# Altium footprint library Connector_FFC-FPC.PcbLib: 184 footprints (part 10 of 12)
Each footprint in its own frame and in the unit in brackets; x right, y up, seen from the top. Pads: shape width x height; smd on the part's side, far side on the other; paste and mask are expansions set on the pad; w line width, h text height; cw(c..) or ccw(c..) is an arc to the next point about the centre after c.
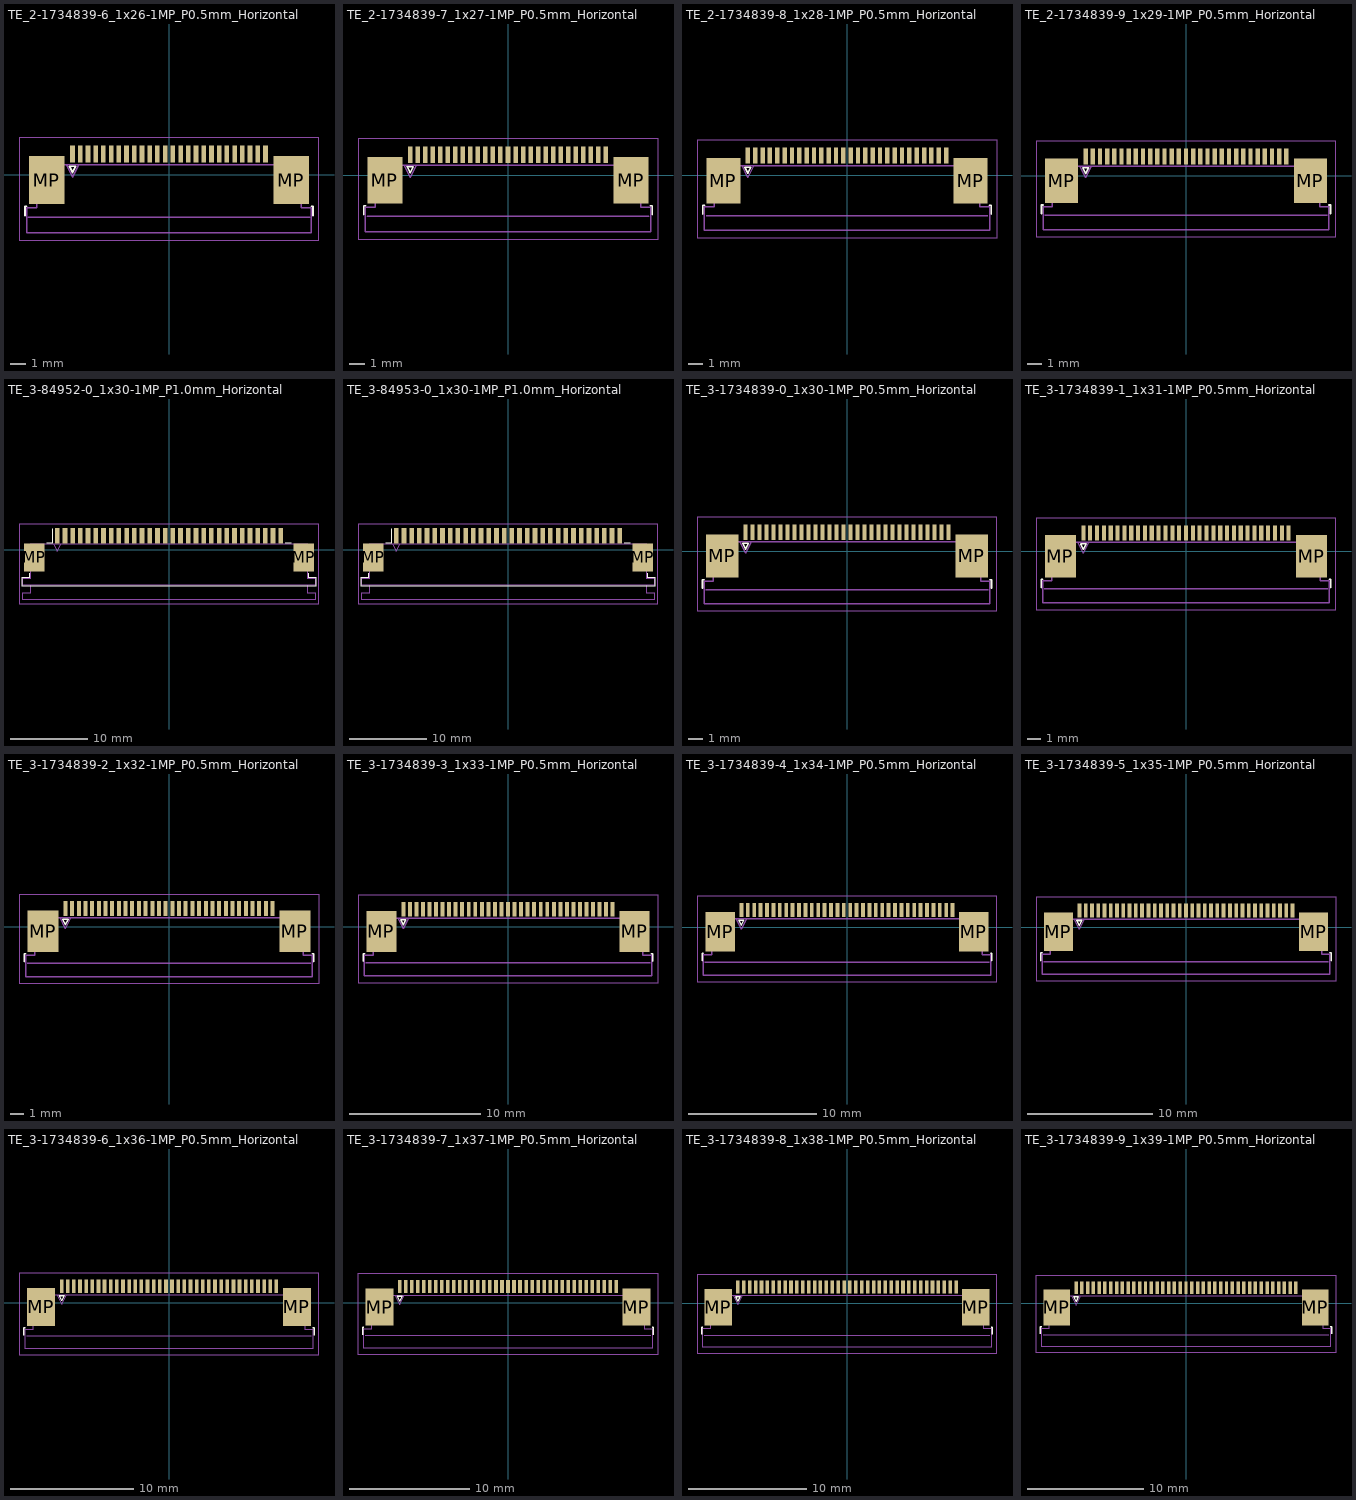
[diagram p9: the footprints below, top view; thin cyan lines are the x and y axes]

## TE_2-1734839-6_1x26-1MP_P0.5mm_Horizontal [mm]
pads (28):
  rect 0.3x1.1 smd: 1(-6.25,1.35) 2(-5.75,1.35) 3(-5.25,1.35) 4(-4.75,1.35) 5(-4.25,1.35) 6(-3.75,1.35) 7(-3.25,1.35) 8(-2.75,1.35) 9(-2.25,1.35) 10(-1.75,1.35) 11(-1.25,1.35) 12(-0.75,1.35) 13(-0.25,1.35) 14(0.25,1.35) 15(0.75,1.35) 16(1.25,1.35) 17(1.75,1.35) 18(2.25,1.35) 19(2.75,1.35) 20(3.25,1.35) 21(3.75,1.35) 22(4.25,1.35) 23(4.75,1.35) 24(5.25,1.35) 25(5.75,1.35) 26(6.25,1.35)
  rect 2.3x3.1 smd: MP(-7.92,-0.35) MP(7.92,-0.35)
F.SilkS:
  lines w0.12: -9.325,-2.64 -9.325,-2.04 -9.215,-2.04 ; 9.215,-2.04 9.325,-2.04 9.325,-2.64 ; -6.45,0.55 -6.25,0.15 -6.05,0.55 -6.45,0.55
Dwgs.User:
  lines w0.1: -9.105,-2.75 9.105,-2.75
F.CrtYd:
  lines w0.05: -9.72,-4.25 9.72,-4.25 9.72,2.4 -9.72,2.4 -9.72,-4.25
F.Fab:
  lines w0.1: -6.65,0.65 -6.25,-0.15 -5.85,0.65 ; -9.215,-3.75 -9.215,-2.15 -8.56,-2.15 -8.56,0.65 8.56,0.65 8.56,-2.15 9.215,-2.15 9.215,-3.75 -9.215,-3.75
  text "'.Designator'" at -4.047,-2.39 h1

## TE_2-1734839-7_1x27-1MP_P0.5mm_Horizontal [mm]
pads (29):
  rect 0.3x1.1 smd: 1(-6.5,1.35) 2(-6,1.35) 3(-5.5,1.35) 4(-5,1.35) 5(-4.5,1.35) 6(-4,1.35) 7(-3.5,1.35) 8(-3,1.35) 9(-2.5,1.35) 10(-2,1.35) 11(-1.5,1.35) 12(-1,1.35) 13(-0.5,1.35) 14(0,1.35) 15(0.5,1.35) 16(1,1.35) 17(1.5,1.35) 18(2,1.35) 19(2.5,1.35) 20(3,1.35) 21(3.5,1.35) 22(4,1.35) 23(4.5,1.35) 24(5,1.35) 25(5.5,1.35) 26(6,1.35) 27(6.5,1.35)
  rect 2.3x3.1 smd: MP(-8.17,-0.35) MP(8.17,-0.35)
F.SilkS:
  lines w0.12: -9.575,-2.64 -9.575,-2.04 -9.465,-2.04 ; 9.465,-2.04 9.575,-2.04 9.575,-2.64 ; -6.7,0.55 -6.3,0.55 -6.5,0.15 -6.7,0.55
Dwgs.User:
  lines w0.1: -9.355,-2.75 9.355,-2.75
F.CrtYd:
  lines w0.05: -9.96,-4.25 -9.96,2.4 9.96,2.4 9.96,-4.25 -9.96,-4.25
F.Fab:
  lines w0.1: -6.9,0.65 -6.5,-0.15 -6.1,0.65 ; -9.465,-3.75 9.465,-3.75 9.465,-2.15 8.81,-2.15 8.81,0.65 -8.81,0.65 -8.81,-2.15 -9.465,-2.15 -9.465,-3.75
  text "'.Designator'" at -4.047,-2.39 h1

## TE_2-1734839-8_1x28-1MP_P0.5mm_Horizontal [mm]
pads (30):
  rect 0.3x1.1 smd: 1(-6.75,1.35) 2(-6.25,1.35) 3(-5.75,1.35) 4(-5.25,1.35) 5(-4.75,1.35) 6(-4.25,1.35) 7(-3.75,1.35) 8(-3.25,1.35) 9(-2.75,1.35) 10(-2.25,1.35) 11(-1.75,1.35) 12(-1.25,1.35) 13(-0.75,1.35) 14(-0.25,1.35) 15(0.25,1.35) 16(0.75,1.35) 17(1.25,1.35) 18(1.75,1.35) 19(2.25,1.35) 20(2.75,1.35) 21(3.25,1.35) 22(3.75,1.35) 23(4.25,1.35) 24(4.75,1.35) 25(5.25,1.35) 26(5.75,1.35) 27(6.25,1.35) 28(6.75,1.35)
  rect 2.3x3.1 smd: MP(-8.42,-0.35) MP(8.42,-0.35)
F.SilkS:
  lines w0.12: -9.825,-2.64 -9.825,-2.04 -9.715,-2.04 ; 9.715,-2.04 9.825,-2.04 9.825,-2.64 ; -6.95,0.55 -6.55,0.55 -6.75,0.15 -6.95,0.55
Dwgs.User:
  lines w0.1: -9.605,-2.75 9.605,-2.75
F.CrtYd:
  lines w0.05: -10.22,-4.25 -10.22,2.4 10.22,2.4 10.22,-4.25 -10.22,-4.25
F.Fab:
  lines w0.1: -7.15,0.65 -6.75,-0.15 -6.35,0.65 ; -9.715,-3.75 9.715,-3.75 9.715,-2.15 9.06,-2.15 9.06,0.65 -9.06,0.65 -9.06,-2.15 -9.715,-2.15 -9.715,-3.75
  text "'.Designator'" at -4.047,-2.39 h1

## TE_2-1734839-9_1x29-1MP_P0.5mm_Horizontal [mm]
pads (31):
  rect 0.3x1.1 smd: 1(-7,1.35) 2(-6.5,1.35) 3(-6,1.35) 4(-5.5,1.35) 5(-5,1.35) 6(-4.5,1.35) 7(-4,1.35) 8(-3.5,1.35) 9(-3,1.35) 10(-2.5,1.35) 11(-2,1.35) 12(-1.5,1.35) 13(-1,1.35) 14(-0.5,1.35) 15(0,1.35) 16(0.5,1.35) 17(1,1.35) 18(1.5,1.35) 19(2,1.35) 20(2.5,1.35) 21(3,1.35) 22(3.5,1.35) 23(4,1.35) 24(4.5,1.35) 25(5,1.35) 26(5.5,1.35) 27(6,1.35) 28(6.5,1.35) 29(7,1.35)
  rect 2.3x3.1 smd: MP(-8.67,-0.35) MP(8.67,-0.35)
F.SilkS:
  lines w0.12: -10.075,-2.64 -10.075,-2.04 -9.965,-2.04 ; 9.965,-2.04 10.075,-2.04 10.075,-2.64 ; -7.2,0.55 -6.8,0.55 -7,0.15 -7.2,0.55
Dwgs.User:
  lines w0.1: -9.855,-2.75 9.855,-2.75
F.CrtYd:
  lines w0.05: -10.46,-4.25 10.46,-4.25 10.46,2.4 -10.46,2.4 -10.46,-4.25
F.Fab:
  lines w0.1: -7.4,0.65 -7,-0.15 -6.6,0.65 ; -9.965,-3.75 -9.965,-2.15 -9.31,-2.15 -9.31,0.65 9.31,0.65 9.31,-2.15 9.965,-2.15 9.965,-3.75 -9.965,-3.75
  text "'.Designator'" at -4.047,-2.39 h1

## TE_3-84952-0_1x30-1MP_P1.0mm_Horizontal [mm]
pads (32):
  rect 0.61x2 smd: 1(-14.5,1.8) 2(-13.5,1.8) 3(-12.5,1.8) 4(-11.5,1.8) 5(-10.5,1.8) 6(-9.5,1.8) 7(-8.5,1.8) 8(-7.5,1.8) 9(-6.5,1.8) 10(-5.5,1.8) 11(-4.5,1.8) 12(-3.5,1.8) 13(-2.5,1.8) 14(-1.5,1.8) 15(-0.5,1.8) 16(0.5,1.8) 17(1.5,1.8) 18(2.5,1.8) 19(3.5,1.8) 20(4.5,1.8) 21(5.5,1.8) 22(6.5,1.8) 23(7.5,1.8) 24(8.5,1.8) 25(9.5,1.8) 26(10.5,1.8) 27(11.5,1.8) 28(12.5,1.8) 29(13.5,1.8) 30(14.5,1.8)
  rect 2.68x3.6 smd: MP(-17.49,-1) MP(17.49,-1)
F.SilkS:
  lines w0.12: -18.045,-3.06 -18.045,-3.6 -19.07,-3.6 -19.07,-4.71 19.07,-4.71 19.07,-3.6 18.045,-3.6 18.045,-3.06 ; -15.89,0.91 -15.065,0.91 -15.065,2.71 ; 15.065,0.91 15.89,0.91
F.CrtYd:
  lines w0.05: -19.46,-7 19.46,-7 19.46,3.3 -19.46,3.3 -19.46,-7
F.Fab:
  lines w0.1: -17.935,-4.6 -17.935,-5.61 -18.96,-5.61 -18.96,-6.5 18.96,-6.5 18.96,-5.61 17.935,-5.61 17.935,-4.6 ; -15,0.8 -14.5,-0.2 -14,0.8 ; -18.96,-4.6 18.96,-4.6 18.96,-3.71 17.935,-3.71 17.935,0.8 -17.935,0.8 -17.935,-3.71 -18.96,-3.71 -18.96,-4.6
  text "'.Designator'" at -4.047,-2.74 h1

## TE_3-84953-0_1x30-1MP_P1.0mm_Horizontal [mm]
pads (32):
  rect 0.61x2 smd: 1(-14.5,1.8) 2(-13.5,1.8) 3(-12.5,1.8) 4(-11.5,1.8) 5(-10.5,1.8) 6(-9.5,1.8) 7(-8.5,1.8) 8(-7.5,1.8) 9(-6.5,1.8) 10(-5.5,1.8) 11(-4.5,1.8) 12(-3.5,1.8) 13(-2.5,1.8) 14(-1.5,1.8) 15(-0.5,1.8) 16(0.5,1.8) 17(1.5,1.8) 18(2.5,1.8) 19(3.5,1.8) 20(4.5,1.8) 21(5.5,1.8) 22(6.5,1.8) 23(7.5,1.8) 24(8.5,1.8) 25(9.5,1.8) 26(10.5,1.8) 27(11.5,1.8) 28(12.5,1.8) 29(13.5,1.8) 30(14.5,1.8)
  rect 2.68x3.6 smd: MP(-17.49,-1) MP(17.49,-1)
F.SilkS:
  lines w0.12: -18.045,-3.06 -18.045,-3.6 -19.07,-3.6 -19.07,-4.71 19.07,-4.71 19.07,-3.6 18.045,-3.6 18.045,-3.06 ; -15.89,0.91 -15.065,0.91 -15.065,2.71 ; 15.065,0.91 15.89,0.91
F.CrtYd:
  lines w0.05: -19.46,-7 19.46,-7 19.46,3.3 -19.46,3.3 -19.46,-7
F.Fab:
  lines w0.1: -17.935,-4.6 -17.935,-5.61 -18.96,-5.61 -18.96,-6.5 18.96,-6.5 18.96,-5.61 17.935,-5.61 17.935,-4.6 ; -15,0.8 -14.5,-0.2 -14,0.8 ; -18.96,-4.6 18.96,-4.6 18.96,-3.71 17.935,-3.71 17.935,0.8 -17.935,0.8 -17.935,-3.71 -18.96,-3.71 -18.96,-4.6
  text "'.Designator'" at -4.047,-2.74 h1

## TE_3-1734839-0_1x30-1MP_P0.5mm_Horizontal [mm]
pads (32):
  rect 0.3x1.1 smd: 1(-7.25,1.35) 2(-6.75,1.35) 3(-6.25,1.35) 4(-5.75,1.35) 5(-5.25,1.35) 6(-4.75,1.35) 7(-4.25,1.35) 8(-3.75,1.35) 9(-3.25,1.35) 10(-2.75,1.35) 11(-2.25,1.35) 12(-1.75,1.35) 13(-1.25,1.35) 14(-0.75,1.35) 15(-0.25,1.35) 16(0.25,1.35) 17(0.75,1.35) 18(1.25,1.35) 19(1.75,1.35) 20(2.25,1.35) 21(2.75,1.35) 22(3.25,1.35) 23(3.75,1.35) 24(4.25,1.35) 25(4.75,1.35) 26(5.25,1.35) 27(5.75,1.35) 28(6.25,1.35) 29(6.75,1.35) 30(7.25,1.35)
  rect 2.3x3.1 smd: MP(-8.92,-0.35) MP(8.92,-0.35)
F.SilkS:
  lines w0.12: -10.325,-2.64 -10.325,-2.04 -10.215,-2.04 ; 10.215,-2.04 10.325,-2.04 10.325,-2.64 ; -7.45,0.55 -7.05,0.55 -7.25,0.15 -7.45,0.55
Dwgs.User:
  lines w0.1: -10.105,-2.75 10.105,-2.75
F.CrtYd:
  lines w0.05: -10.72,-4.25 -10.72,2.4 10.72,2.4 10.72,-4.25 -10.72,-4.25
F.Fab:
  lines w0.1: -7.65,0.65 -7.25,-0.15 -6.85,0.65 ; -10.215,-3.75 -10.215,-2.15 -9.56,-2.15 -9.56,0.65 9.56,0.65 9.56,-2.15 10.215,-2.15 10.215,-3.75 -10.215,-3.75
  text "'.Designator'" at -4.047,-2.39 h1

## TE_3-1734839-1_1x31-1MP_P0.5mm_Horizontal [mm]
pads (33):
  rect 0.3x1.1 smd: 1(-7.5,1.35) 2(-7,1.35) 3(-6.5,1.35) 4(-6,1.35) 5(-5.5,1.35) 6(-5,1.35) 7(-4.5,1.35) 8(-4,1.35) 9(-3.5,1.35) 10(-3,1.35) 11(-2.5,1.35) 12(-2,1.35) 13(-1.5,1.35) 14(-1,1.35) 15(-0.5,1.35) 16(0,1.35) 17(0.5,1.35) 18(1,1.35) 19(1.5,1.35) 20(2,1.35) 21(2.5,1.35) 22(3,1.35) 23(3.5,1.35) 24(4,1.35) 25(4.5,1.35) 26(5,1.35) 27(5.5,1.35) 28(6,1.35) 29(6.5,1.35) 30(7,1.35) 31(7.5,1.35)
  rect 2.3x3.1 smd: MP(-9.17,-0.35) MP(9.17,-0.35)
F.SilkS:
  lines w0.12: -10.575,-2.64 -10.575,-2.04 -10.465,-2.04 ; 10.465,-2.04 10.575,-2.04 10.575,-2.64 ; -7.7,0.55 -7.5,0.15 -7.3,0.55 -7.7,0.55
Dwgs.User:
  lines w0.1: -10.355,-2.75 10.355,-2.75
F.CrtYd:
  lines w0.05: -10.96,-4.25 -10.96,2.4 10.96,2.4 10.96,-4.25 -10.96,-4.25
F.Fab:
  lines w0.1: -7.9,0.65 -7.5,-0.15 -7.1,0.65 ; -10.465,-3.75 -10.465,-2.15 -9.81,-2.15 -9.81,0.65 9.81,0.65 9.81,-2.15 10.465,-2.15 10.465,-3.75 -10.465,-3.75
  text "'.Designator'" at -4.047,-2.39 h1

## TE_3-1734839-2_1x32-1MP_P0.5mm_Horizontal [mm]
pads (34):
  rect 0.3x1.1 smd: 1(-7.75,1.35) 2(-7.25,1.35) 3(-6.75,1.35) 4(-6.25,1.35) 5(-5.75,1.35) 6(-5.25,1.35) 7(-4.75,1.35) 8(-4.25,1.35) 9(-3.75,1.35) 10(-3.25,1.35) 11(-2.75,1.35) 12(-2.25,1.35) 13(-1.75,1.35) 14(-1.25,1.35) 15(-0.75,1.35) 16(-0.25,1.35) 17(0.25,1.35) 18(0.75,1.35) 19(1.25,1.35) 20(1.75,1.35) 21(2.25,1.35) 22(2.75,1.35) 23(3.25,1.35) 24(3.75,1.35) 25(4.25,1.35) 26(4.75,1.35) 27(5.25,1.35) 28(5.75,1.35) 29(6.25,1.35) 30(6.75,1.35) 31(7.25,1.35) 32(7.75,1.35)
  rect 2.3x3.1 smd: MP(-9.42,-0.35) MP(9.42,-0.35)
F.SilkS:
  lines w0.12: -10.825,-2.64 -10.825,-2.04 -10.715,-2.04 ; 10.715,-2.04 10.825,-2.04 10.825,-2.64 ; -7.95,0.55 -7.75,0.15 -7.55,0.55 -7.95,0.55
Dwgs.User:
  lines w0.1: -10.605,-2.75 10.605,-2.75
F.CrtYd:
  lines w0.05: -11.22,-4.25 11.22,-4.25 11.22,2.4 -11.22,2.4 -11.22,-4.25
F.Fab:
  lines w0.1: -8.15,0.65 -7.75,-0.15 -7.35,0.65 ; -10.715,-3.75 -10.715,-2.15 -10.06,-2.15 -10.06,0.65 10.06,0.65 10.06,-2.15 10.715,-2.15 10.715,-3.75 -10.715,-3.75
  text "'.Designator'" at -4.047,-2.39 h1

## TE_3-1734839-3_1x33-1MP_P0.5mm_Horizontal [mm]
pads (35):
  rect 0.3x1.1 smd: 1(-8,1.35) 2(-7.5,1.35) 3(-7,1.35) 4(-6.5,1.35) 5(-6,1.35) 6(-5.5,1.35) 7(-5,1.35) 8(-4.5,1.35) 9(-4,1.35) 10(-3.5,1.35) 11(-3,1.35) 12(-2.5,1.35) 13(-2,1.35) 14(-1.5,1.35) 15(-1,1.35) 16(-0.5,1.35) 17(0,1.35) 18(0.5,1.35) 19(1,1.35) 20(1.5,1.35) 21(2,1.35) 22(2.5,1.35) 23(3,1.35) 24(3.5,1.35) 25(4,1.35) 26(4.5,1.35) 27(5,1.35) 28(5.5,1.35) 29(6,1.35) 30(6.5,1.35) 31(7,1.35) 32(7.5,1.35) 33(8,1.35)
  rect 2.3x3.1 smd: MP(-9.67,-0.35) MP(9.67,-0.35)
F.SilkS:
  lines w0.12: -11.075,-2.64 -11.075,-2.04 -10.965,-2.04 ; 10.965,-2.04 11.075,-2.04 11.075,-2.64 ; -8.2,0.55 -7.8,0.55 -8,0.15 -8.2,0.55
Dwgs.User:
  lines w0.1: -10.855,-2.75 10.855,-2.75
F.CrtYd:
  lines w0.05: -11.46,-4.25 11.46,-4.25 11.46,2.4 -11.46,2.4 -11.46,-4.25
F.Fab:
  lines w0.1: -8.4,0.65 -8,-0.15 -7.6,0.65 ; -10.965,-3.75 10.965,-3.75 10.965,-2.15 10.31,-2.15 10.31,0.65 -10.31,0.65 -10.31,-2.15 -10.965,-2.15 -10.965,-3.75
  text "'.Designator'" at -4.047,-2.39 h1

## TE_3-1734839-4_1x34-1MP_P0.5mm_Horizontal [mm]
pads (36):
  rect 0.3x1.1 smd: 1(-8.25,1.35) 2(-7.75,1.35) 3(-7.25,1.35) 4(-6.75,1.35) 5(-6.25,1.35) 6(-5.75,1.35) 7(-5.25,1.35) 8(-4.75,1.35) 9(-4.25,1.35) 10(-3.75,1.35) 11(-3.25,1.35) 12(-2.75,1.35) 13(-2.25,1.35) 14(-1.75,1.35) 15(-1.25,1.35) 16(-0.75,1.35) 17(-0.25,1.35) 18(0.25,1.35) 19(0.75,1.35) 20(1.25,1.35) 21(1.75,1.35) 22(2.25,1.35) 23(2.75,1.35) 24(3.25,1.35) 25(3.75,1.35) 26(4.25,1.35) 27(4.75,1.35) 28(5.25,1.35) 29(5.75,1.35) 30(6.25,1.35) 31(6.75,1.35) 32(7.25,1.35) 33(7.75,1.35) 34(8.25,1.35)
  rect 2.3x3.1 smd: MP(-9.92,-0.35) MP(9.92,-0.35)
F.SilkS:
  lines w0.12: -11.325,-2.64 -11.325,-2.04 -11.215,-2.04 ; 11.215,-2.04 11.325,-2.04 11.325,-2.64 ; -8.45,0.55 -8.05,0.55 -8.25,0.15 -8.45,0.55
Dwgs.User:
  lines w0.1: -11.105,-2.75 11.105,-2.75
F.CrtYd:
  lines w0.05: -11.72,-4.25 11.72,-4.25 11.72,2.4 -11.72,2.4 -11.72,-4.25
F.Fab:
  lines w0.1: -8.65,0.65 -8.25,-0.15 -7.85,0.65 ; -11.215,-3.75 -11.215,-2.15 -10.56,-2.15 -10.56,0.65 10.56,0.65 10.56,-2.15 11.215,-2.15 11.215,-3.75 -11.215,-3.75
  text "'.Designator'" at -4.047,-2.39 h1

## TE_3-1734839-5_1x35-1MP_P0.5mm_Horizontal [mm]
pads (37):
  rect 0.3x1.1 smd: 1(-8.5,1.35) 2(-8,1.35) 3(-7.5,1.35) 4(-7,1.35) 5(-6.5,1.35) 6(-6,1.35) 7(-5.5,1.35) 8(-5,1.35) 9(-4.5,1.35) 10(-4,1.35) 11(-3.5,1.35) 12(-3,1.35) 13(-2.5,1.35) 14(-2,1.35) 15(-1.5,1.35) 16(-1,1.35) 17(-0.5,1.35) 18(0,1.35) 19(0.5,1.35) 20(1,1.35) 21(1.5,1.35) 22(2,1.35) 23(2.5,1.35) 24(3,1.35) 25(3.5,1.35) 26(4,1.35) 27(4.5,1.35) 28(5,1.35) 29(5.5,1.35) 30(6,1.35) 31(6.5,1.35) 32(7,1.35) 33(7.5,1.35) 34(8,1.35) 35(8.5,1.35)
  rect 2.3x3.1 smd: MP(-10.17,-0.35) MP(10.17,-0.35)
F.SilkS:
  lines w0.12: -11.575,-2.64 -11.575,-2.04 -11.465,-2.04 ; 11.465,-2.04 11.575,-2.04 11.575,-2.64 ; -8.7,0.55 -8.5,0.15 -8.3,0.55 -8.7,0.55
Dwgs.User:
  lines w0.1: -11.355,-2.75 11.355,-2.75
F.CrtYd:
  lines w0.05: -11.96,-4.25 11.96,-4.25 11.96,2.4 -11.96,2.4 -11.96,-4.25
F.Fab:
  lines w0.1: -8.9,0.65 -8.5,-0.15 -8.1,0.65 ; -11.465,-3.75 11.465,-3.75 11.465,-2.15 10.81,-2.15 10.81,0.65 -10.81,0.65 -10.81,-2.15 -11.465,-2.15 -11.465,-3.75
  text "'.Designator'" at -4.047,-2.39 h1

## TE_3-1734839-6_1x36-1MP_P0.5mm_Horizontal [mm]
pads (38):
  rect 0.3x1.1 smd: 1(-8.75,1.35) 2(-8.25,1.35) 3(-7.75,1.35) 4(-7.25,1.35) 5(-6.75,1.35) 6(-6.25,1.35) 7(-5.75,1.35) 8(-5.25,1.35) 9(-4.75,1.35) 10(-4.25,1.35) 11(-3.75,1.35) 12(-3.25,1.35) 13(-2.75,1.35) 14(-2.25,1.35) 15(-1.75,1.35) 16(-1.25,1.35) 17(-0.75,1.35) 18(-0.25,1.35) 19(0.25,1.35) 20(0.75,1.35) 21(1.25,1.35) 22(1.75,1.35) 23(2.25,1.35) 24(2.75,1.35) 25(3.25,1.35) 26(3.75,1.35) 27(4.25,1.35) 28(4.75,1.35) 29(5.25,1.35) 30(5.75,1.35) 31(6.25,1.35) 32(6.75,1.35) 33(7.25,1.35) 34(7.75,1.35) 35(8.25,1.35) 36(8.75,1.35)
  rect 2.3x3.1 smd: MP(-10.42,-0.35) MP(10.42,-0.35)
F.SilkS:
  lines w0.12: -11.825,-2.64 -11.825,-2.04 -11.715,-2.04 ; 11.715,-2.04 11.825,-2.04 11.825,-2.64 ; -8.95,0.55 -8.75,0.15 -8.55,0.55 -8.95,0.55
Dwgs.User:
  lines w0.1: -11.605,-2.75 11.605,-2.75
F.CrtYd:
  lines w0.05: -12.22,-4.25 -12.22,2.4 12.22,2.4 12.22,-4.25 -12.22,-4.25
F.Fab:
  lines w0.1: -9.15,0.65 -8.75,-0.15 -8.35,0.65 ; -11.715,-3.75 -11.715,-2.15 -11.06,-2.15 -11.06,0.65 11.06,0.65 11.06,-2.15 11.715,-2.15 11.715,-3.75 -11.715,-3.75
  text "'.Designator'" at -4.047,-2.39 h1

## TE_3-1734839-7_1x37-1MP_P0.5mm_Horizontal [mm]
pads (39):
  rect 0.3x1.1 smd: 1(-9,1.35) 2(-8.5,1.35) 3(-8,1.35) 4(-7.5,1.35) 5(-7,1.35) 6(-6.5,1.35) 7(-6,1.35) 8(-5.5,1.35) 9(-5,1.35) 10(-4.5,1.35) 11(-4,1.35) 12(-3.5,1.35) 13(-3,1.35) 14(-2.5,1.35) 15(-2,1.35) 16(-1.5,1.35) 17(-1,1.35) 18(-0.5,1.35) 19(0,1.35) 20(0.5,1.35) 21(1,1.35) 22(1.5,1.35) 23(2,1.35) 24(2.5,1.35) 25(3,1.35) 26(3.5,1.35) 27(4,1.35) 28(4.5,1.35) 29(5,1.35) 30(5.5,1.35) 31(6,1.35) 32(6.5,1.35) 33(7,1.35) 34(7.5,1.35) 35(8,1.35) 36(8.5,1.35) 37(9,1.35)
  rect 2.3x3.1 smd: MP(-10.67,-0.35) MP(10.67,-0.35)
F.SilkS:
  lines w0.12: -12.075,-2.64 -12.075,-2.04 -11.965,-2.04 ; 11.965,-2.04 12.075,-2.04 12.075,-2.64 ; -9.2,0.55 -8.8,0.55 -9,0.15 -9.2,0.55
Dwgs.User:
  lines w0.1: -11.855,-2.75 11.855,-2.75
F.CrtYd:
  lines w0.05: -12.46,-4.25 -12.46,2.4 12.46,2.4 12.46,-4.25 -12.46,-4.25
F.Fab:
  lines w0.1: -9.4,0.65 -9,-0.15 -8.6,0.65 ; -11.965,-3.75 -11.965,-2.15 -11.31,-2.15 -11.31,0.65 11.31,0.65 11.31,-2.15 11.965,-2.15 11.965,-3.75 -11.965,-3.75
  text "'.Designator'" at -4.047,-2.39 h1

## TE_3-1734839-8_1x38-1MP_P0.5mm_Horizontal [mm]
pads (40):
  rect 0.3x1.1 smd: 1(-9.25,1.35) 2(-8.75,1.35) 3(-8.25,1.35) 4(-7.75,1.35) 5(-7.25,1.35) 6(-6.75,1.35) 7(-6.25,1.35) 8(-5.75,1.35) 9(-5.25,1.35) 10(-4.75,1.35) 11(-4.25,1.35) 12(-3.75,1.35) 13(-3.25,1.35) 14(-2.75,1.35) 15(-2.25,1.35) 16(-1.75,1.35) 17(-1.25,1.35) 18(-0.75,1.35) 19(-0.25,1.35) 20(0.25,1.35) 21(0.75,1.35) 22(1.25,1.35) 23(1.75,1.35) 24(2.25,1.35) 25(2.75,1.35) 26(3.25,1.35) 27(3.75,1.35) 28(4.25,1.35) 29(4.75,1.35) 30(5.25,1.35) 31(5.75,1.35) 32(6.25,1.35) 33(6.75,1.35) 34(7.25,1.35) 35(7.75,1.35) 36(8.25,1.35) 37(8.75,1.35) 38(9.25,1.35)
  rect 2.3x3.1 smd: MP(-10.92,-0.35) MP(10.92,-0.35)
F.SilkS:
  lines w0.12: -12.325,-2.64 -12.325,-2.04 -12.215,-2.04 ; 12.215,-2.04 12.325,-2.04 12.325,-2.64 ; -9.45,0.55 -9.25,0.15 -9.05,0.55 -9.45,0.55
Dwgs.User:
  lines w0.1: -12.105,-2.75 12.105,-2.75
F.CrtYd:
  lines w0.05: -12.72,-4.25 12.72,-4.25 12.72,2.4 -12.72,2.4 -12.72,-4.25
F.Fab:
  lines w0.1: -9.65,0.65 -9.25,-0.15 -8.85,0.65 ; -12.215,-3.75 -12.215,-2.15 -11.56,-2.15 -11.56,0.65 11.56,0.65 11.56,-2.15 12.215,-2.15 12.215,-3.75 -12.215,-3.75
  text "'.Designator'" at -4.047,-2.39 h1

## TE_3-1734839-9_1x39-1MP_P0.5mm_Horizontal [mm]
pads (41):
  rect 0.3x1.1 smd: 1(-9.5,1.35) 2(-9,1.35) 3(-8.5,1.35) 4(-8,1.35) 5(-7.5,1.35) 6(-7,1.35) 7(-6.5,1.35) 8(-6,1.35) 9(-5.5,1.35) 10(-5,1.35) 11(-4.5,1.35) 12(-4,1.35) 13(-3.5,1.35) 14(-3,1.35) 15(-2.5,1.35) 16(-2,1.35) 17(-1.5,1.35) 18(-1,1.35) 19(-0.5,1.35) 20(0,1.35) 21(0.5,1.35) 22(1,1.35) 23(1.5,1.35) 24(2,1.35) 25(2.5,1.35) 26(3,1.35) 27(3.5,1.35) 28(4,1.35) 29(4.5,1.35) 30(5,1.35) 31(5.5,1.35) 32(6,1.35) 33(6.5,1.35) 34(7,1.35) 35(7.5,1.35) 36(8,1.35) 37(8.5,1.35) 38(9,1.35) 39(9.5,1.35)
  rect 2.3x3.1 smd: MP(-11.17,-0.35) MP(11.17,-0.35)
F.SilkS:
  lines w0.12: -12.575,-2.64 -12.575,-2.04 -12.465,-2.04 ; 12.465,-2.04 12.575,-2.04 12.575,-2.64 ; -9.7,0.55 -9.5,0.15 -9.3,0.55 -9.7,0.55
Dwgs.User:
  lines w0.1: -12.355,-2.75 12.355,-2.75
F.CrtYd:
  lines w0.05: -12.96,-4.25 12.96,-4.25 12.96,2.4 -12.96,2.4 -12.96,-4.25
F.Fab:
  lines w0.1: -9.9,0.65 -9.5,-0.15 -9.1,0.65 ; -12.465,-3.75 -12.465,-2.15 -11.81,-2.15 -11.81,0.65 11.81,0.65 11.81,-2.15 12.465,-2.15 12.465,-3.75 -12.465,-3.75
  text "'.Designator'" at -4.047,-2.39 h1